# EAGLE library part DIN5-F-J (library joakim)
Female CONNECTOR 5 pins 90 deg. with shield, horizontal (DIN 41524) NS is without screw holes
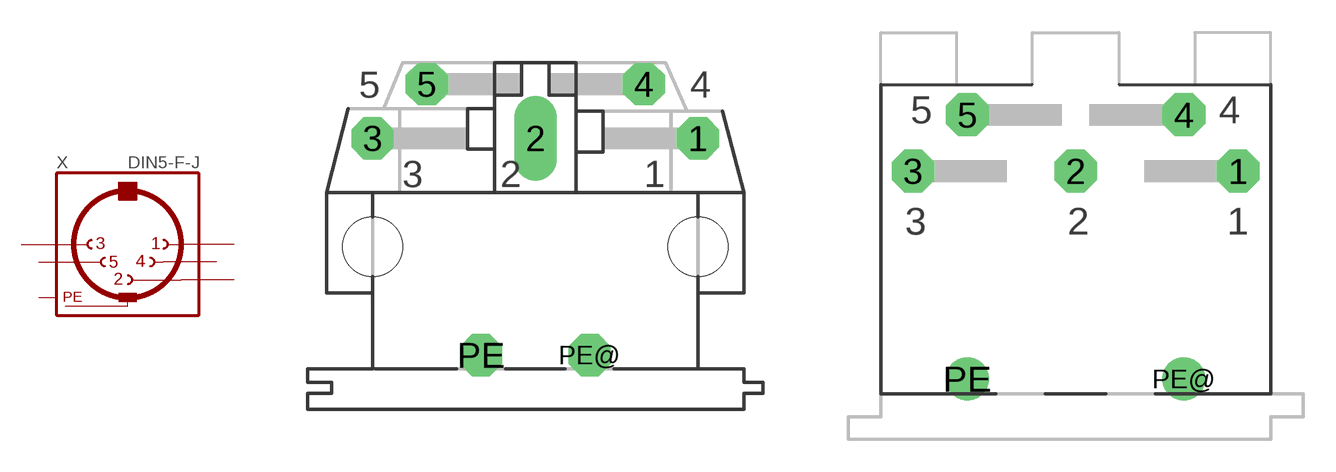
[diagram p44: symbol with the pads of MAB5SH-J; footprints MAB5SH-J, KDJ01-5-J]

Designator prefix X

## DIN5-F-J (OC_FARNELL: 809883; OC_NEWARK: unknown)  [MAB5SH-J]
1  1  pas
2  2  pas
3  3  pas
4  4  pas
5  5  pas
PE  PE  pwr
PE@  PE  pwr

## DIN5-F-JKD  [KDJ01-5-J]
Pads as for MAB5SH-J

## DIN5-F-JNS  [MAB5SH-NO-SCREWS-J]
Pads as for MAB5SH-J

## Footprint MAB5SH-J (pad centres in mm)
Female CONNECTOR 5 pins 90 deg. with shield, horizontal (DIN 41524)
drill 1.321 octagon: 1 7.62,5.08; 3 -7.62,5.08; 4 5.08,7.62; 5 -5.08,7.62; PE -2.54,-5.08; PE@ 2.54,-5.08
drill 1.321 long: 2 0,5.08
hole 2.794 at 7.62,0
hole 2.794 at -7.62,0

## Footprint KDJ01-5-J (pad centres in mm)
drill 1.321 octagon: 1 7.5,12.4; 2 0,12.4; 3 -7.5,12.4; 4 5,15; 5 -5,15
drill 1.321: PE -5,2.8; PE@ 5,2.8

## Footprint MAB5SH-NO-SCREWS-J (pad centres in mm)
Female CONNECTOR 5 pins 90 deg. with shield, horizontal (DIN 41524)
drill 1.321 octagon: 1 7.62,5.08; 3 -7.62,5.08; 4 5.08,7.62; 5 -5.08,7.62; PE -2.54,-5.08; PE@ 2.54,-5.08
drill 1.321 long: 2 0,5.08